# Altium footprint library Regulator.PcbLib: 13 footprints
Each footprint in its own frame and in the unit in brackets; x right, y up, seen from the top. Pads: shape width x height; smd on the part's side, far side on the other; paste and mask are expansions set on the pad; w line width, h text height; cw(c..) or ccw(c..) is an arc to the next point about the centre after c.
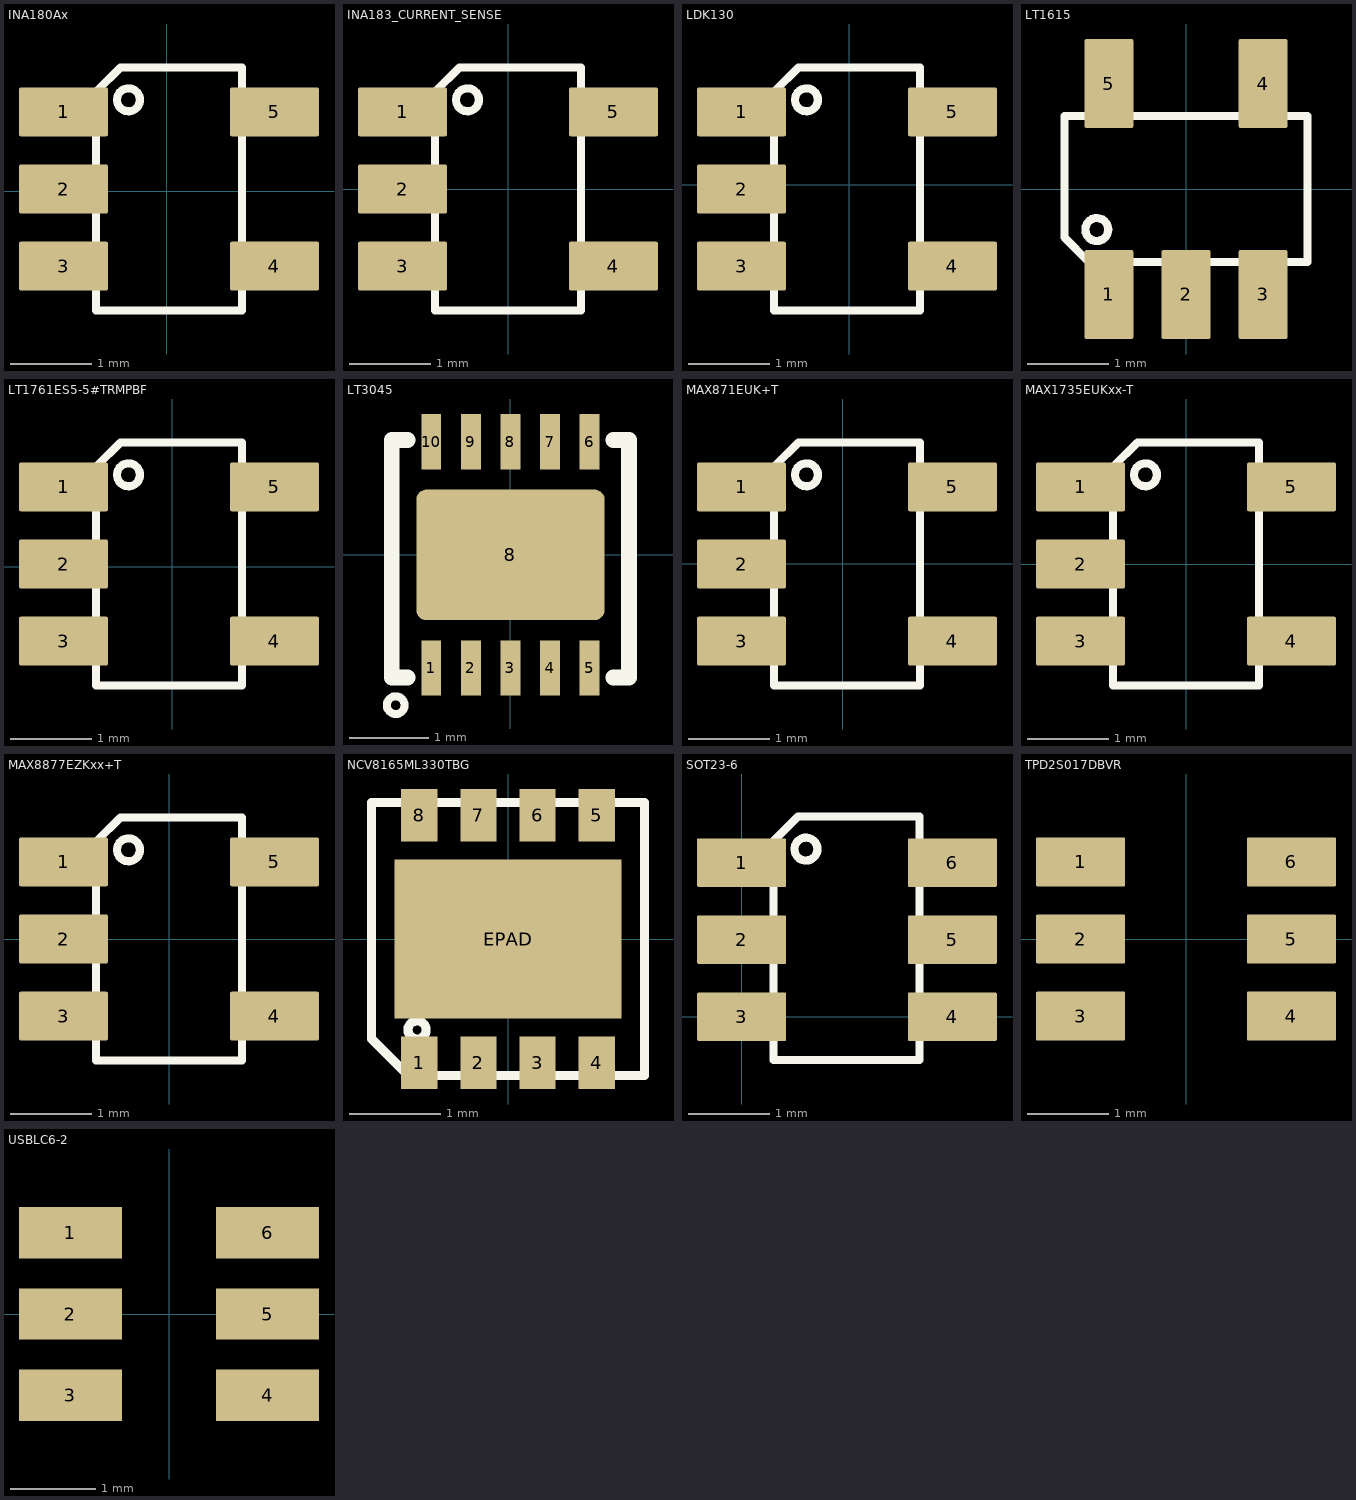
[diagram p0: the footprints below, top view; thin cyan lines are the x and y axes]

## INA180Ax [mm] "INA180AxLow- and High-SideVoltageOutput,Current-SenseAmplifiers"
pads (5):
  rrect7% 1.1x0.6 smd: 1(-1.275,0.975) 2(-1.275,0.025) 3(-1.275,-0.925) 4(1.325,-0.925) 5(1.325,0.975)
Top Overlay:
  circle w0.1: c-0.475,1.125 r0.141
  lines w0.1: -0.875,-1.475 0.925,-1.475 0.925,1.525 -0.575,1.525 -0.875,1.225 -0.875,-1.475
3D body "SOT-23-5.step": height 1.55, standoff 0, extent -1.375,-1.425 1.425,1.475

## INA183_CURRENT_SENSE [mm] "2.7-V to 26-V, High-Precision Current Sense Amplifier"
pads (5):
  rrect7% 1.1x0.6 smd: 1(-1.3,0.95) 2(-1.3,0) 3(-1.3,-0.95) 4(1.3,-0.95) 5(1.3,0.95)
Top Overlay:
  circle w0.1: c-0.5,1.1 r0.141
  lines w0.1: -0.9,-1.5 0.9,-1.5 0.9,1.5 -0.6,1.5 -0.9,1.2 -0.9,-1.5
3D body "SOT-23-5.step": height 1.55, standoff 0, extent -1.4,-1.45 1.4,1.45

## LDK130 [mm] "300 mA low quiescent current very low noise LDO"
pads (5):
  rrect7% 1.1x0.6 smd: 1(-1.325,0.9) 2(-1.325,-0.05) 3(-1.325,-1) 4(1.275,-1) 5(1.275,0.9)
Top Overlay:
  circle w0.1: c-0.525,1.05 r0.141
  lines w0.1: -0.925,-1.55 -0.925,1.15 -0.625,1.45 0.875,1.45 0.875,-1.55 -0.925,-1.55
3D body "SOT-23-5.step": height 1.55, standoff 0, extent -1.425,-1.5 1.375,1.4

## LT1615 [mm] "Micropower Step-up DC/DC Converter in ThinSOT"
pads (5):
  rrect7% 0.6x1.1 smd: 1(-0.95,-1.3) 2(0,-1.3) 3(0.95,-1.3) 4(0.95,1.3) 5(-0.95,1.3)
Top Overlay:
  circle w0.1: c-1.1,-0.5 r0.141
  lines w0.1: -1.5,-0.6 -1.5,0.9 1.5,0.9 1.5,-0.9 -1.2,-0.9 -1.5,-0.6
3D body "SOT-23-5.step": height 1.55, standoff 0, extent -1.45,-1.4 1.45,1.4

## LT1761ES5-5#TRMPBF [mm]
pads (5):
  rrect7% 1.1x0.6 smd: 1(-1.342,0.982) 2(-1.342,0.032) 3(-1.342,-0.918) 4(1.258,-0.918) 5(1.258,0.982)
Top Overlay:
  circle w0.1: c-0.542,1.132 r0.141
  lines w0.1: -0.942,-1.468 0.858,-1.468 0.858,1.532 -0.642,1.532 -0.942,1.232 -0.942,-1.468
3D body "SOT-23-5.step": height 1.55, standoff 0, extent -1.442,-1.418 1.358,1.482

## LT3045 [mm] "20V, 500mA, Ultralow Noise, Ultrahigh PSRR LDO"
pads (11):
  rect 0.25x0.7 smd: 1(-1,-1.43) 2(-0.5,-1.43) 3(0,-1.43) 4(0.5,-1.43) 5(1,-1.43) 6(1,1.43) 7(0.5,1.43) 8(0,1.43) 9(-0.5,1.43) 10(-1,1.43)
  rrect15% 2.38x1.65 smd paste-2: 8(0,0)
Top Overlay:
  circle w0.1: c-1.45,-1.9 r0.112
  lines w0.2: -1.3,-1.55 -1.5,-1.55 -1.5,1.45 -1.3,1.45 ; 1.3,-1.55 1.5,-1.55 1.5,1.45 1.3,1.45
Top Paste:
  region: -1.18,-0.21 -1.18,-0.186 -1.162,-0.142 -1.128,-0.108 -1.084,-0.09 -1.06,-0.09 -0.34,-0.09 -0.32,-0.09 -0.283,-0.105 -0.255,-0.133 -0.24,-0.17 -0.24,-0.19 -0.24,-0.71 -0.24,-0.73 -0.255,-0.767 -0.283,-0.795 -0.32,-0.81 -0.34,-0.81 -1.1,-0.81 -1.116,-0.81 -1.145,-0.798 -1.168,-0.775 -1.18,-0.746 -1.18,-0.73
  region: 0.24,-0.21 0.24,-0.186 0.258,-0.142 0.292,-0.108 0.336,-0.09 0.36,-0.09 1.08,-0.09 1.1,-0.09 1.137,-0.105 1.165,-0.133 1.18,-0.17 1.18,-0.19 1.18,-0.71 1.18,-0.73 1.165,-0.767 1.137,-0.795 1.1,-0.81 1.08,-0.81 0.32,-0.81 0.304,-0.81 0.275,-0.798 0.252,-0.775 0.24,-0.746 0.24,-0.73
  region: 0.24,0.7 0.24,0.724 0.258,0.768 0.292,0.802 0.336,0.82 0.36,0.82 1.08,0.82 1.1,0.82 1.137,0.805 1.165,0.777 1.18,0.74 1.18,0.72 1.18,0.2 1.18,0.18 1.165,0.143 1.137,0.115 1.1,0.1 1.08,0.1 0.32,0.1 0.304,0.1 0.275,0.112 0.252,0.135 0.24,0.164 0.24,0.18
  region: -1.18,0.7 -1.18,0.724 -1.162,0.768 -1.128,0.802 -1.084,0.82 -1.06,0.82 -0.34,0.82 -0.32,0.82 -0.283,0.805 -0.255,0.777 -0.24,0.74 -0.24,0.72 -0.24,0.2 -0.24,0.18 -0.255,0.143 -0.283,0.115 -0.32,0.1 -0.34,0.1 -1.1,0.1 -1.116,0.1 -1.145,0.112 -1.168,0.135 -1.18,0.164 -1.18,0.18
3D body "IQS620A_DFN3X3_21-07-2020.STEP": height 0.75, standoff -0.05, extent -1.55,-1.525 1.45,1.475

## MAX871EUK+T [mm] "500 kHz Switched-Capacitor Voltage Inverters"
pads (5):
  rrect7% 1.1x0.6 smd: 1(-1.25,0.95) 2(-1.25,0) 3(-1.25,-0.95) 4(1.35,-0.95) 5(1.35,0.95)
Top Overlay:
  circle w0.1: c-0.45,1.1 r0.141
  lines w0.1: -0.85,-1.5 0.95,-1.5 0.95,1.5 -0.55,1.5 -0.85,1.2 -0.85,-1.5
3D body "SOT-23-5.step": height 1.55, standoff 0, extent -1.35,-1.45 1.45,1.45

## MAX1735EUKxx-T [mm] "Fixed and adjustable negative LDO"
pads (5):
  rrect7% 1.1x0.6 smd: 1(-1.3,0.95) 2(-1.3,0) 3(-1.3,-0.95) 4(1.3,-0.95) 5(1.3,0.95)
Top Overlay:
  circle w0.1: c-0.5,1.1 r0.141
  lines w0.1: -0.9,-1.5 -0.9,1.2 -0.6,1.5 0.9,1.5 0.9,-1.5 -0.9,-1.5
3D body "SOT-23-5.step": height 1.55, standoff 0, extent -1.4,-1.45 1.4,1.45

## MAX8877EZKxx+T [mm] "LDO Spannungs-Regulator Low-Noise, Low-Dropout, 150mA Linear Regulators with '2982 Pinout"
pads (5):
  rrect7% 1.1x0.6 smd: 1(-1.3,0.95) 2(-1.3,0) 3(-1.3,-0.95) 4(1.3,-0.95) 5(1.3,0.95)
Top Overlay:
  circle w0.1: c-0.5,1.1 r0.141
  lines w0.1: -0.9,-1.5 -0.9,1.2 -0.6,1.5 0.9,1.5 0.9,-1.5 -0.9,-1.5
3D body "SOT-23-5.step": height 1.55, standoff 0, extent -1.4,-1.45 1.4,1.45

## NCV8165ML330TBG [mm] "3V3 ON Semi LDO Spannungs-Regulator 500 mA"
pads (9):
  rect 0.4x0.58 smd: 1(-0.975,-1.36) 2(-0.325,-1.36) 3(0.325,-1.36) 4(0.975,-1.36) 5(0.975,1.36) 6(0.325,1.36) 7(-0.325,1.36) 8(-0.975,1.36)
  rect 2.5x1.75 smd: EPAD(0,0)
Top Overlay:
  circle w0.1: c-1,-1 r0.1
  lines w0.1: -1.5,-1.1 -1.1,-1.5 1.5,-1.5 1.5,1.5 -1.5,1.5 -1.5,-1.1
Mechanical 1:
  text "Model P0.5 / incorrect!" at -1.499,-0.6 h0.3
3D body "DFN8_3X3_ONS.step": height 0.99, standoff 0, extent -1.499,-1.651 1.499,1.651

## SOT23-6 [mm] "Generic SOT23-6 footprint"
pads (6):
  rrect7% 1.1x0.6 smd: 1(0,1.9) 2(0,0.95) 3(0,0) 4(2.6,0) 5(2.6,0.95) 6(2.6,1.9)
Top Overlay:
  circle w0.1: c0.794,2.068 r0.141
  lines w0.1: 0.394,-0.532 0.394,2.168 0.694,2.468 2.194,2.468 2.194,-0.532 0.394,-0.532
3D body "SOT-23-5.step": height 1.55, standoff 0, extent -0.1,-0.5 2.7,2.4

## TPD2S017DBVR [mm] "2-Channel Ultra-Low Clamp Voltage ESD  Solution With Series-Resistor Isolation"
pads (6):
  rrect5% 1.1x0.6 smd: 1(-1.3,0.95) 2(-1.3,0) 3(-1.3,-0.95) 4(1.3,-0.95) 5(1.3,0) 6(1.3,0.95)
3D body "DBV0006A.stp": height 1.2, standoff 0, extent -1.4,-1.45 1.4,1.45

## USBLC6-2 [mm] "Very low capacitance ESD protection for USB and buses"
pads (6):
  rect 1.2x0.6 smd: 1(-1.15,0.95) 2(-1.15,0) 3(-1.15,-0.95) 4(1.15,-0.95) 5(1.15,0) 6(1.15,0.95)